# Altium footprint library SAMTEC_HMTSW-101-X-X-S-X.PcbLib: 1 footprints
Each footprint in its own frame and in the unit in brackets; x right, y up, seen from the top. Pads: shape width x height; smd on the part's side, far side on the other; paste and mask are expansions set on the pad; w line width, h text height; cw(c..) or ccw(c..) is an arc to the next point about the centre after c.
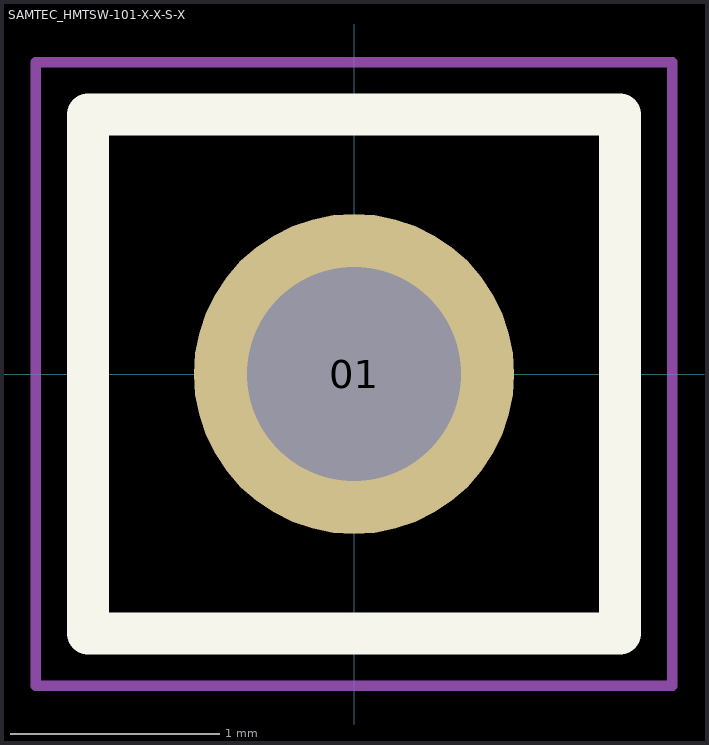
[diagram p0: the footprint, top view; thin cyan lines are the x and y axes]

## SAMTEC_HMTSW-101-X-X-S-X [mm]
pads (1):
  round 1.53 hole 1.02: 01(0,0)
Top Overlay:
  lines w0.2: -1.27,-1.24 1.27,-1.24 1.27,1.24 -1.27,1.24 -1.27,-1.24
Assembly Top:
  lines w0.1: -1.27,-1.24 1.27,-1.24 1.27,1.24 -1.27,1.24 -1.27,-1.24
Courtyard Top:
  lines w0.05: -1.52,-1.49 -1.52,1.49 1.52,1.49 1.52,-1.49 -1.52,-1.49